# Altium footprint library PV36.PcbLib: 5 footprints
Each footprint in its own frame and in the unit in brackets; x right, y up, seen from the top. Pads: shape width x height; smd on the part's side, far side on the other; paste and mask are expansions set on the pad; w line width, h text height; cw(c..) or ccw(c..) is an arc to the next point about the centre after c.
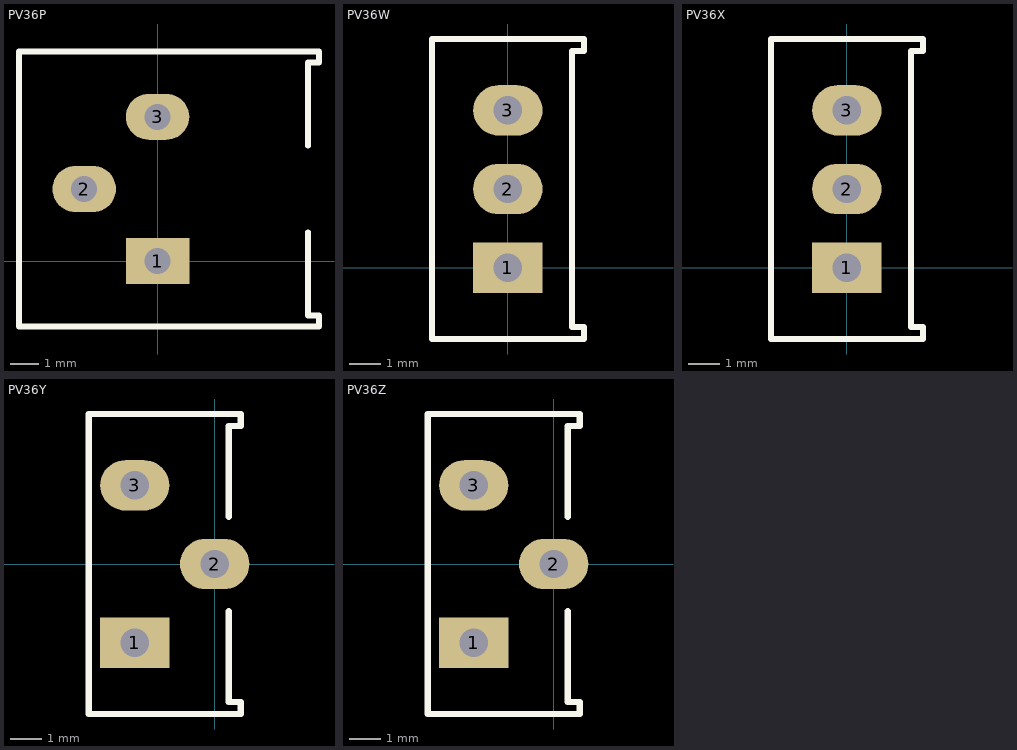
[diagram p0: the footprints below, top view; thin cyan lines are the x and y axes]

## PV36P [mm]
pads (3):
  rect 2.2x1.6 hole 0.9: 1(0,0)
  oval 2.2x1.6 hole 0.9: 2(-2.54,2.5) 3(0,5)
Top Overlay:
  lines w0.2: 5.213,-1.885 5.213,1 ; 5.214,-1.885 5.594,-1.885 5.594,-2.265 -4.8,-2.265 -4.8,7.265 5.594,7.265 5.594,6.885 5.214,6.885 5.214,4
3D body: height 0.38, standoff -6.4, extent -0.253,-0.254 0.255,0.255
3D body: height 0.38, standoff -6.4, extent -0.253,4.746 0.255,5.255
3D body: height 0.38, standoff 0, extent -4.8,6.883 5.594,7.264
3D body: height 0.38, standoff 0, extent -4.8,-2.264 5.594,-1.883
3D body: height 4.45, standoff 0.38, extent -4.8,-2.264 5.594,7.264
3D body: height 0.38, standoff -6.4, extent -2.793,2.246 -2.285,2.755
3D body: height 4.45, standoff 1.91, extent -6.32,4.535 -4.8,7.074

## PV36W [mm]
pads (3):
  rect 2.2x1.6 hole 0.9: 1(0,0)
  oval 2.2x1.6 hole 0.9: 2(0,2.5) 3(0,5)
Top Overlay:
  lines w0.2: -2.41,-2.265 -2.41,7.265 2.42,7.265 2.42,6.885 2.04,6.885 2.04,-1.885 2.42,-1.885 2.42,-2.265 -2.41,-2.265
3D body: height 11.55, standoff 10.03, extent -2.409,4.725 0.129,7.264
3D body: height 10.03, standoff 0.38, extent -2.409,-2.264 2.419,7.264
3D body: height 0.38, standoff 0, extent -2.409,-2.264 2.419,-1.883
3D body: height 0.38, standoff 0, extent -2.409,6.883 2.419,7.264
3D body: height 0.38, standoff -6.4, extent -0.253,-0.254 0.255,0.255
3D body: height 0.38, standoff -6.4, extent -0.248,2.246 0.26,2.755
3D body: height 0.38, standoff -6.4, extent -0.253,4.746 0.255,5.255

## PV36X [mm]
pads (3):
  rect 2.2x1.6 hole 0.9: 1(0,0)
  oval 2.2x1.6 hole 0.9: 2(0,2.5) 3(0,5)
Top Overlay:
  lines w0.2: -2.41,-2.265 -2.41,7.265 2.42,7.265 2.42,6.885 2.04,6.885 2.04,-1.885 2.42,-1.885 2.42,-2.265 -2.41,-2.265
3D body: height 10.03, standoff 7.49, extent -2.409,7.264 0.129,8.785
3D body: height 10.03, standoff 0.38, extent -2.409,-2.264 2.419,7.264
3D body: height 0.38, standoff 0, extent -2.409,-2.264 2.419,-1.883
3D body: height 0.38, standoff 0, extent -2.409,6.883 2.419,7.264
3D body: height 0.38, standoff -6.4, extent -0.253,-0.254 0.255,0.255
3D body: height 0.38, standoff -6.4, extent -0.248,2.246 0.26,2.755
3D body: height 0.38, standoff -6.4, extent -0.253,4.746 0.255,5.255

## PV36Y [mm]
pads (3):
  rect 2.2x1.6 hole 0.9: 1(-2.54,-2.5)
  oval 2.2x1.6 hole 0.9: 2(0,0) 3(-2.54,2.5)
Top Overlay:
  lines w0.2: 0.449,-4.385 0.449,-1.5 ; 0.45,-4.385 0.83,-4.385 0.83,-4.765 -4,-4.765 -4,4.765 0.83,4.765 0.83,4.385 0.45,4.385 0.45,1.5
3D body: height 11.55, standoff 10.03, extent -4,2.225 -1.461,4.765
3D body: height 0.38, standoff -6.4, extent -2.793,2.246 -2.285,2.755
3D body: height 0.38, standoff -6.4, extent -2.793,-2.754 -2.285,-2.245
3D body: height 0.38, standoff -6.4, extent -0.253,-0.254 0.255,0.255
3D body: height 10.03, standoff 0.38, extent -4,-4.764 0.829,4.765
3D body: height 0.38, standoff 0, extent -4,-4.764 0.829,-4.383
3D body: height 0.38, standoff 0, extent -4,4.384 0.829,4.765

## PV36Z [mm]
pads (3):
  rect 2.2x1.6 hole 0.9: 1(-2.54,-2.5)
  oval 2.2x1.6 hole 0.9: 2(0,0) 3(-2.54,2.5)
Top Overlay:
  lines w0.2: 0.449,-4.385 0.449,-1.5 ; 0.45,-4.385 0.83,-4.385 0.83,-4.765 -4,-4.765 -4,4.765 0.83,4.765 0.83,4.385 0.45,4.385 0.45,1.5
3D body: height 0.38, standoff -6.4, extent -2.793,2.246 -2.285,2.755
3D body: height 0.38, standoff -6.4, extent -2.793,-2.754 -2.285,-2.245
3D body: height 0.38, standoff -6.4, extent -0.253,-0.254 0.255,0.255
3D body: height 10.03, standoff 0.38, extent -4,-4.764 0.829,4.765
3D body: height 0.38, standoff 0, extent -4,-4.764 0.829,-4.383
3D body: height 0.38, standoff 0, extent -4,4.384 0.829,4.765
3D body: height 10.03, standoff 7.49, extent -4,4.765 -1.461,6.285